# EAGLE library part DSPIC33EP256MU806-I/MR (library piccoli)
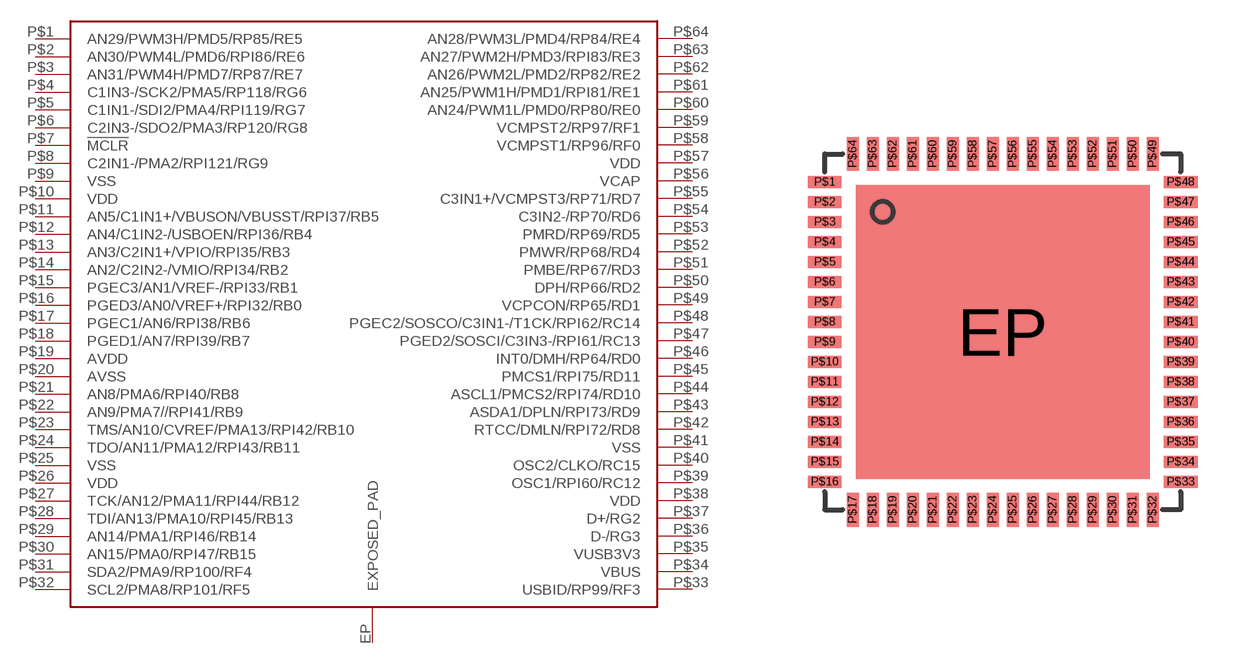
[diagram p13: symbol with the pads of QFN-64; footprint QFN-64]

Designator prefix -

## DSPIC33EP256MU806-I/MR  [QFN-64]
EP  EXPOSED_PAD  nc
P$1  AN29/PWM3H/PMD5/RP85/RE5
P$2  AN30/PWM4L/PMD6/RPI86/RE6
P$3  AN31/PWM4H/PMD7/RP87/RE7
P$4  C1IN3-/SCK2/PMA5/RP118/RG6
P$5  C1IN1-/SDI2/PMA4/RPI119/RG7
P$6  C2IN3-/SDO2/PMA3/RP120/RG8
P$7  !MCLR!  in
P$8  C2IN1-/PMA2/RPI121/RG9
P$9  VSS  pwr
P$10  VDD  pwr
P$11  AN5/C1IN1+/VBUSON/VBUSST/RPI37/RB5
P$12  AN4/C1IN2-/USBOEN/RPI36/RB4
P$13  AN3/C2IN1+/VPIO/RPI35/RB3
P$14  AN2/C2IN2-/VMIO/RPI34/RB2
P$15  PGEC3/AN1/VREF-/RPI33/RB1
P$16  PGED3/AN0/VREF+/RPI32/RB0
P$17  PGEC1/AN6/RPI38/RB6
P$18  PGED1/AN7/RPI39/RB7
P$19  AVDD  pwr
P$20  AVSS  pwr
P$21  AN8/PMA6/RPI40/RB8
P$22  AN9/PMA7//RPI41/RB9
P$23  TMS/AN10/CVREF/PMA13/RPI42/RB10
P$24  TDO/AN11/PMA12/RPI43/RB11
P$25  VSS  pwr
P$26  VDD  pwr
P$27  TCK/AN12/PMA11/RPI44/RB12
P$28  TDI/AN13/PMA10/RPI45/RB13
P$29  AN14/PMA1/RPI46/RB14
P$30  AN15/PMA0/RPI47/RB15
P$31  SDA2/PMA9/RP100/RF4
P$32  SCL2/PMA8/RP101/RF5
P$33  USBID/RP99/RF3
P$34  VBUS
P$35  VUSB3V3
P$36  D-/RG3
P$37  D+/RG2
P$38  VDD  pwr
P$39  OSC1/RPI60/RC12
P$40  OSC2/CLKO/RC15
P$41  VSS  pwr
P$42  RTCC/DMLN/RPI72/RD8
P$43  ASDA1/DPLN/RPI73/RD9
P$44  ASCL1/PMCS2/RPI74/RD10
P$45  PMCS1/RPI75/RD11
P$46  INT0/DMH/RP64/RD0
P$47  PGED2/SOSCI/C3IN3-/RPI61/RC13
P$48  PGEC2/SOSCO/C3IN1-/T1CK/RPI62/RC14
P$49  VCPCON/RP65/RD1
P$50  DPH/RP66/RD2
P$51  PMBE/RP67/RD3
P$52  PMWR/RP68/RD4
P$53  PMRD/RP69/RD5
P$54  C3IN2-/RP70/RD6
P$55  C3IN1+/VCMPST3/RP71/RD7
P$56  VCAP  pwr
P$57  VDD  pwr
P$58  VCMPST1/RP96/RF0
P$59  VCMPST2/RP97/RF1
P$60  AN24/PWM1L/PMD0/RP80/RE0
P$61  AN25/PWM1H/PMD1/RPI81/RE1
P$62  AN26/PWM2L/PMD2/RP82/RE2
P$63  AN27/PWM2H/PMD3/RPI83/RE3
P$64  AN28/PWM3L/PMD4/RP84/RE4

## Footprint QFN-64 (pad centres in mm)
smd 7.35 x 7.35: EP 0,0
smd 0.85 x 0.3: P$1 -4.45,3.75; P$2 -4.45,3.25; P$3 -4.45,2.75; P$4 -4.45,2.25; P$5 -4.45,1.75; P$6 -4.45,1.25; P$7 -4.45,0.75; P$8 -4.45,0.25; P$9 -4.45,-0.25; P$10 -4.45,-0.75; P$11 -4.45,-1.25; P$12 -4.45,-1.75; P$13 -4.45,-2.25; P$14 -4.45,-2.75; P$15 -4.45,-3.25; P$16 -4.45,-3.75; P$33 4.45,-3.75; P$34 4.45,-3.25; P$35 4.45,-2.75; P$36 4.45,-2.25; P$37 4.45,-1.75; P$38 4.45,-1.25; P$39 4.45,-0.75; P$40 4.45,-0.25; P$41 4.45,0.25; P$42 4.45,0.75; P$43 4.45,1.25; P$44 4.45,1.75; P$45 4.45,2.25; P$46 4.45,2.75; P$47 4.45,3.25; P$48 4.45,3.75
smd 0.3 x 0.85: P$17 -3.75,-4.45; P$18 -3.25,-4.45; P$19 -2.75,-4.45; P$20 -2.25,-4.45; P$21 -1.75,-4.45; P$22 -1.25,-4.45; P$23 -0.75,-4.45; P$24 -0.25,-4.45; P$25 0.25,-4.45; P$26 0.75,-4.45; P$27 1.25,-4.45; P$28 1.75,-4.45; P$29 2.25,-4.45; P$30 2.75,-4.45; P$31 3.25,-4.45; P$32 3.75,-4.45; P$49 3.75,4.45; P$50 3.25,4.45; P$51 2.75,4.45; P$52 2.25,4.45; P$53 1.75,4.45; P$54 1.25,4.45; P$55 0.75,4.45; P$56 0.25,4.45; P$57 -0.25,4.45; P$58 -0.75,4.45; P$59 -1.25,4.45; P$60 -1.75,4.45; P$61 -2.25,4.45; P$62 -2.75,4.45; P$63 -3.25,4.45; P$64 -3.75,4.45